# Altium footprint library LED.PcbLib: 55 footprints (part 1 of 4)
Each footprint in its own frame and in the unit in brackets; x right, y up, seen from the top. Pads: shape width x height; smd on the part's side, far side on the other; paste and mask are expansions set on the pad; w line width, h text height; cw(c..) or ccw(c..) is an arc to the next point about the centre after c.
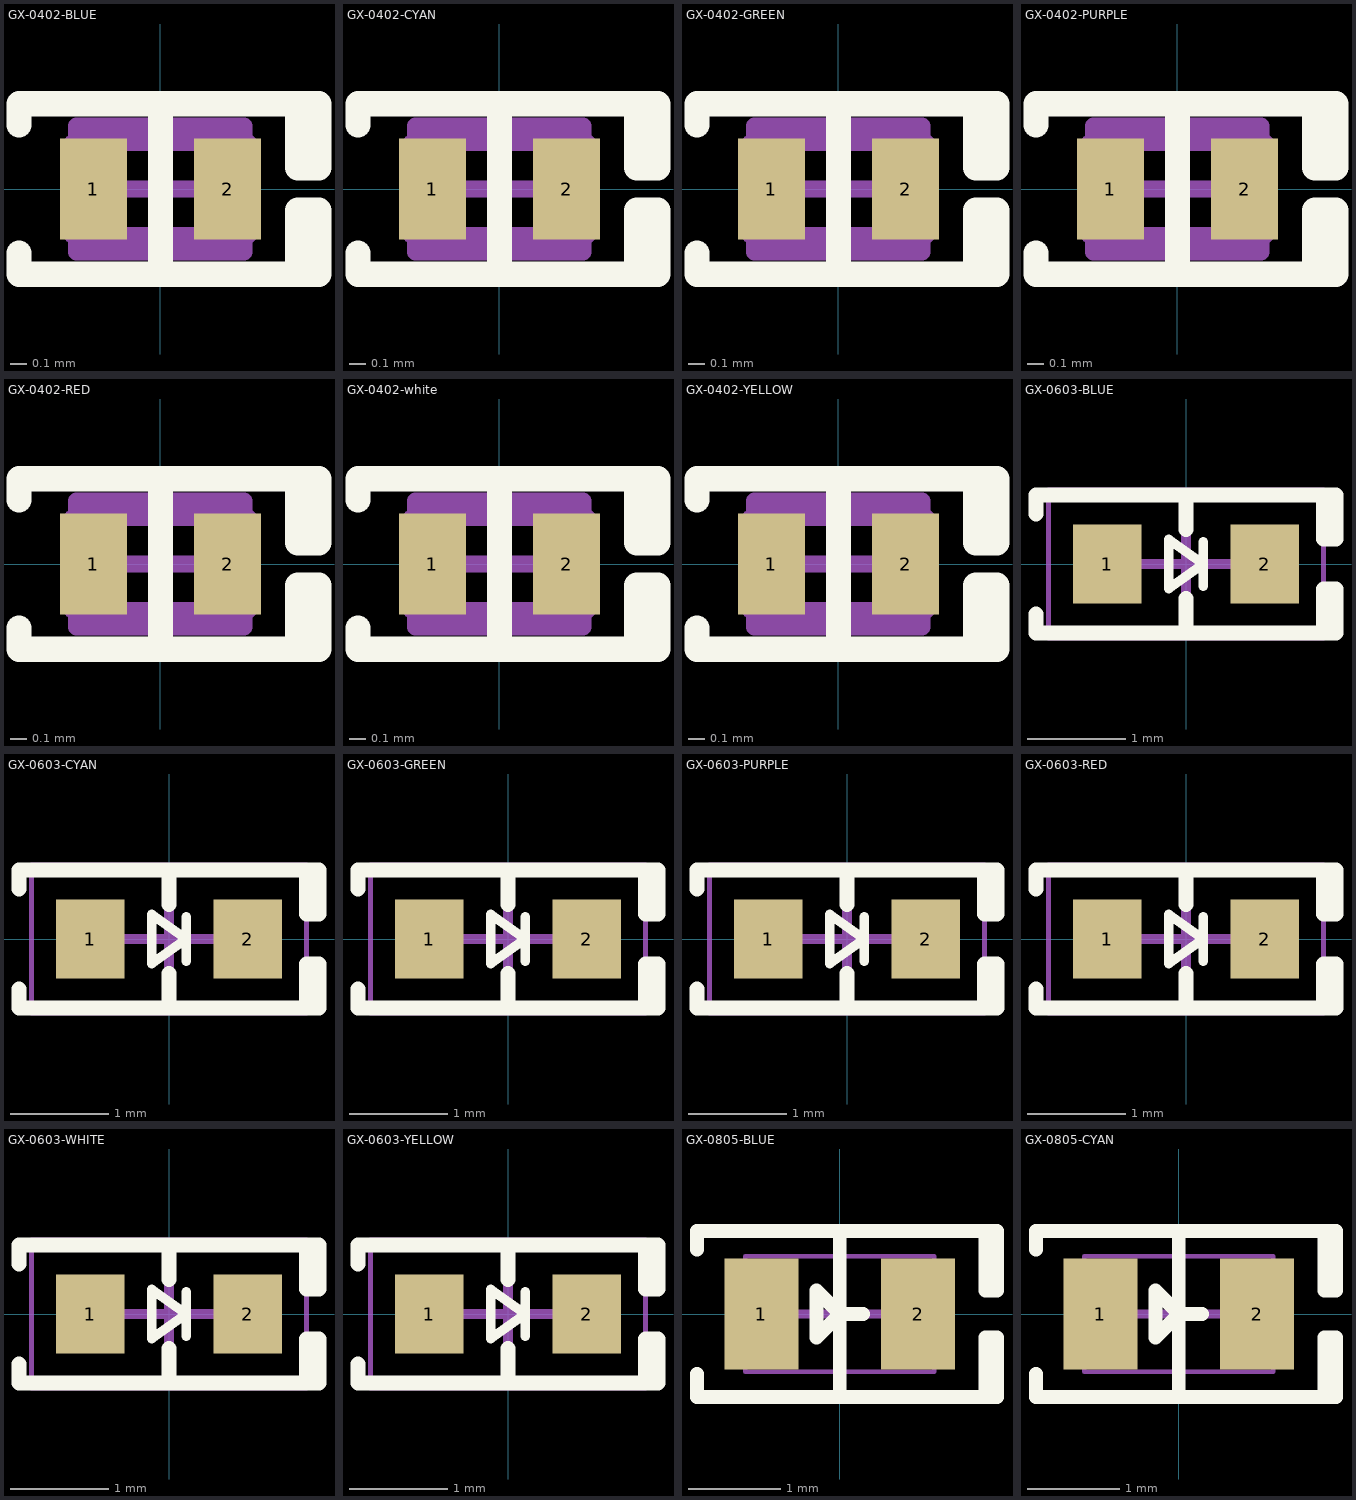
[diagram p0: the footprints below, top view; thin cyan lines are the x and y axes]

## GX-0402-BLUE [mm] "国星光电 0402 LED封装 蓝色"
pads (2):
  rect 0.4x0.6 smd mask+0.05: 1(-0.4,0) 2(0.4,0)
Top Overlay:
  lines w0.15: -0.843,-0.381 -0.843,-0.508 0.818,-0.508 ; -0.843,0.381 -0.843,0.508 0.818,0.508 ; 0,-0.508 0,0.508 ; 0.818,-0.508 0.818,-0.127 0.945,-0.127 0.945,-0.508 0.818,-0.508 ; 0.818,0.508 0.818,0.127 0.945,0.127 0.945,0.508 0.818,0.508
Mechanical 13:
  lines w0.1: -0.525,-0.275 -0.525,0.275 0.525,0.275 0.525,-0.275 -0.525,-0.275
Mechanical 15:
  lines w0.1: -0.275,0 0.275,0 ; 0,-0.275 0,0.275 ; -0.5,-0.375 -0.5,0.375 0.5,0.375 0.5,-0.375 -0.5,-0.375
3D body "LED0402 blue.STEP": height 0.45, standoff 0, extent -0.505,-0.25 0.505,0.25

## GX-0402-CYAN [mm] "国星光电 0402 LED封装 青色"
pads (2):
  rect 0.4x0.6 smd mask+0.05: 1(-0.4,0) 2(0.4,0)
Top Overlay:
  lines w0.15: -0.843,-0.381 -0.843,-0.508 0.818,-0.508 ; -0.843,0.381 -0.843,0.508 0.818,0.508 ; 0,-0.508 0,0.508 ; 0.818,-0.508 0.945,-0.508 0.945,-0.127 0.818,-0.127 0.818,-0.508 ; 0.818,0.508 0.945,0.508 0.945,0.127 0.818,0.127 0.818,0.508
Mechanical 13:
  lines w0.1: -0.525,-0.275 0.525,-0.275 0.525,0.275 -0.525,0.275 -0.525,-0.275
Mechanical 15:
  lines w0.1: -0.275,0 0.275,0 ; 0,-0.275 0,0.275 ; -0.5,-0.375 0.5,-0.375 0.5,0.375 -0.5,0.375 -0.5,-0.375
3D body "LED0402 cyan.STEP": height 0.45, standoff 0, extent -0.505,-0.25 0.505,0.25

## GX-0402-GREEN [mm] "国星光电 0402 LED封装 绿色"
pads (2):
  rect 0.4x0.6 smd mask+0.05: 1(-0.4,0) 2(0.4,0)
Top Overlay:
  lines w0.15: -0.843,-0.381 -0.843,-0.508 0.818,-0.508 ; -0.843,0.381 -0.843,0.508 0.818,0.508 ; 0,-0.508 0,0.508 ; 0.818,-0.508 0.818,-0.127 0.945,-0.127 0.945,-0.508 0.818,-0.508 ; 0.818,0.508 0.818,0.127 0.945,0.127 0.945,0.508 0.818,0.508
Mechanical 13:
  lines w0.1: -0.525,-0.275 -0.525,0.275 0.525,0.275 0.525,-0.275 -0.525,-0.275
Mechanical 15:
  lines w0.1: -0.275,0 0.275,0 ; 0,-0.275 0,0.275 ; -0.5,-0.375 -0.5,0.375 0.5,0.375 0.5,-0.375 -0.5,-0.375
3D body "LED0402 green.STEP": height 0.45, standoff 0, extent -0.505,-0.25 0.505,0.25

## GX-0402-PURPLE [mm] "国星光电 0402 LED封装 紫色"
pads (2):
  rect 0.4x0.6 smd mask+0.05: 1(-0.4,0) 2(0.4,0)
Top Overlay:
  lines w0.15: -0.843,-0.381 -0.843,-0.508 0.818,-0.508 ; -0.843,0.381 -0.843,0.508 0.818,0.508 ; 0,-0.508 0,0.508 ; 0.818,-0.508 0.945,-0.508 0.945,-0.127 0.818,-0.127 0.818,-0.508 ; 0.818,0.508 0.945,0.508 0.945,0.127 0.818,0.127 0.818,0.508
Mechanical 13:
  lines w0.1: -0.525,-0.275 0.525,-0.275 0.525,0.275 -0.525,0.275 -0.525,-0.275
Mechanical 15:
  lines w0.1: -0.275,0 0.275,0 ; 0,-0.275 0,0.275 ; -0.5,-0.375 0.5,-0.375 0.5,0.375 -0.5,0.375 -0.5,-0.375
3D body "LED0402 purple.STEP": height 0.45, standoff 0, extent -0.505,-0.25 0.505,0.25

## GX-0402-RED [mm] "国星光电 0402 LED封装 红色"
pads (2):
  rect 0.4x0.6 smd mask+0.05: 1(-0.4,0) 2(0.4,0)
Top Overlay:
  lines w0.15: -0.843,-0.381 -0.843,-0.508 0.818,-0.508 ; -0.843,0.381 -0.843,0.508 0.818,0.508 ; 0,-0.508 0,0.508 ; 0.818,-0.508 0.818,-0.127 0.945,-0.127 0.945,-0.508 0.818,-0.508 ; 0.818,0.508 0.818,0.127 0.945,0.127 0.945,0.508 0.818,0.508
Mechanical 13:
  lines w0.1: -0.525,-0.275 -0.525,0.275 0.525,0.275 0.525,-0.275 -0.525,-0.275
Mechanical 15:
  lines w0.1: -0.275,0 0.275,0 ; 0,-0.275 0,0.275 ; -0.5,-0.375 -0.5,0.375 0.5,0.375 0.5,-0.375 -0.5,-0.375
3D body "LED0402 red.STEP": height 0.45, standoff 0, extent -0.505,-0.25 0.505,0.25

## GX-0402-white [mm] "国星光电 0402 LED封装 白色"
pads (2):
  rect 0.4x0.6 smd mask+0.05: 1(-0.4,0) 2(0.4,0)
Top Overlay:
  lines w0.15: -0.843,-0.381 -0.843,-0.508 0.818,-0.508 ; -0.843,0.381 -0.843,0.508 0.818,0.508 ; 0,-0.508 0,0.508 ; 0.818,-0.508 0.818,-0.127 0.945,-0.127 0.945,-0.508 0.818,-0.508 ; 0.818,0.508 0.818,0.127 0.945,0.127 0.945,0.508 0.818,0.508
Mechanical 13:
  lines w0.1: -0.525,-0.275 -0.525,0.275 0.525,0.275 0.525,-0.275 -0.525,-0.275
Mechanical 15:
  lines w0.1: -0.275,0 0.275,0 ; 0,-0.275 0,0.275 ; -0.5,-0.375 -0.5,0.375 0.5,0.375 0.5,-0.375 -0.5,-0.375
3D body "LED0402 white.STEP": height 0.45, standoff 0, extent -0.505,-0.25 0.505,0.25

## GX-0402-YELLOW [mm] "国星光电 0402 LED封装 黄色"
pads (2):
  rect 0.4x0.6 smd mask+0.05: 1(-0.4,0) 2(0.4,0)
Top Overlay:
  lines w0.15: -0.843,-0.381 -0.843,-0.508 0.818,-0.508 ; -0.843,0.381 -0.843,0.508 0.818,0.508 ; 0,-0.508 0,0.508 ; 0.818,-0.508 0.945,-0.508 0.945,-0.127 0.818,-0.127 0.818,-0.508 ; 0.818,0.508 0.945,0.508 0.945,0.127 0.818,0.127 0.818,0.508
Mechanical 13:
  lines w0.1: -0.525,-0.275 0.525,-0.275 0.525,0.275 -0.525,0.275 -0.525,-0.275
Mechanical 15:
  lines w0.1: -0.275,0 0.275,0 ; 0,-0.275 0,0.275 ; -0.5,-0.375 0.5,-0.375 0.5,0.375 -0.5,0.375 -0.5,-0.375
3D body "LED0402 yellow.STEP": height 0.45, standoff 0, extent -0.505,-0.25 0.505,0.25

## GX-0603-BLUE [mm] "国星光电 0603 LED封装 蓝色"
pads (2):
  rect 0.7x0.8 smd: 1(-0.8,0) 2(0.8,0)
Top Overlay:
  lines w0.1: 0.175,-0.225 0.175,0 ; 0.175,0.225 0.175,0 ; 0.175,0 -0.175,0.25 -0.175,0 -0.175,-0.25 0.175,0
  lines w0.15: -1.524,-0.508 -1.524,-0.7 1.5,-0.7 ; -1.524,0.508 -1.524,0.7 1.5,0.7 ; 0,-0.7 0,-0.35 ; 0,0.35 0,0.7 ; 1.397,-0.7 1.524,-0.7 1.524,-0.254 1.397,-0.254 1.397,-0.7 ; 1.397,0.254 1.524,0.254 1.524,0.7 1.397,0.7 1.397,0.254
Mechanical 15:
  lines w0.05: -1.397,-0.75 -1.397,0.75 1.397,0.75 1.397,-0.75 -1.397,-0.75
  lines w0.1: -0.475,0 0.475,0 ; 0,-0.475 0,0.475
3D body "LED0603 blue.STEP": height 0.6, standoff 0, extent -0.81,-0.4 0.81,0.4

## GX-0603-CYAN [mm] "国星光电 0603 LED封装 青色"
pads (2):
  rect 0.7x0.8 smd: 1(-0.8,0) 2(0.8,0)
Top Overlay:
  lines w0.1: 0.175,-0.225 0.175,0 ; 0.175,0.225 0.175,0 ; 0.175,0 -0.175,0.25 -0.175,0 -0.175,-0.25 0.175,0
  lines w0.15: -1.524,-0.508 -1.524,-0.7 1.5,-0.7 ; -1.524,0.508 -1.524,0.7 1.5,0.7 ; 0,-0.7 0,-0.35 ; 0,0.35 0,0.7 ; 1.397,-0.7 1.524,-0.7 1.524,-0.254 1.397,-0.254 1.397,-0.7 ; 1.397,0.254 1.524,0.254 1.524,0.7 1.397,0.7 1.397,0.254
Mechanical 15:
  lines w0.05: -1.397,-0.75 -1.397,0.75 1.397,0.75 1.397,-0.75 -1.397,-0.75
  lines w0.1: -0.475,0 0.475,0 ; 0,-0.475 0,0.475
3D body "LED0603 cyan.STEP": height 0.6, standoff 0, extent -0.81,-0.4 0.81,0.4

## GX-0603-GREEN [mm] "国星光电 0603 LED封装 绿色"
pads (2):
  rect 0.7x0.8 smd: 1(-0.8,0) 2(0.8,0)
Top Overlay:
  lines w0.1: 0.175,-0.225 0.175,0 ; 0.175,0.225 0.175,0 ; 0.175,0 -0.175,0.25 -0.175,0 -0.175,-0.25 0.175,0
  lines w0.15: -1.524,-0.508 -1.524,-0.7 1.5,-0.7 ; -1.524,0.508 -1.524,0.7 1.5,0.7 ; 0,-0.7 0,-0.35 ; 0,0.35 0,0.7 ; 1.397,-0.7 1.524,-0.7 1.524,-0.254 1.397,-0.254 1.397,-0.7 ; 1.397,0.254 1.524,0.254 1.524,0.7 1.397,0.7 1.397,0.254
Mechanical 15:
  lines w0.05: -1.397,-0.75 -1.397,0.75 1.397,0.75 1.397,-0.75 -1.397,-0.75
  lines w0.1: -0.475,0 0.475,0 ; 0,-0.475 0,0.475
3D body "LED0603 green.STEP": height 0.6, standoff 0, extent -0.81,-0.4 0.81,0.4

## GX-0603-PURPLE [mm] "国星光电 0603 LED封装 紫色"
pads (2):
  rect 0.7x0.8 smd: 1(-0.8,0) 2(0.8,0)
Top Overlay:
  lines w0.1: 0.175,-0.225 0.175,0 ; 0.175,0.225 0.175,0 ; 0.175,0 -0.175,0.25 -0.175,0 -0.175,-0.25 0.175,0
  lines w0.15: -1.524,-0.508 -1.524,-0.7 1.5,-0.7 ; -1.524,0.508 -1.524,0.7 1.5,0.7 ; 0,-0.7 0,-0.35 ; 0,0.35 0,0.7 ; 1.397,-0.7 1.524,-0.7 1.524,-0.254 1.397,-0.254 1.397,-0.7 ; 1.397,0.254 1.524,0.254 1.524,0.7 1.397,0.7 1.397,0.254
Mechanical 15:
  lines w0.05: -1.397,-0.75 -1.397,0.75 1.397,0.75 1.397,-0.75 -1.397,-0.75
  lines w0.1: -0.475,0 0.475,0 ; 0,-0.475 0,0.475
3D body "LED0603 purple.STEP": height 0.6, standoff 0, extent -0.81,-0.4 0.81,0.4

## GX-0603-RED [mm] "国星光电 0603 LED封装 红色"
pads (2):
  rect 0.7x0.8 smd: 1(-0.8,0) 2(0.8,0)
Top Overlay:
  lines w0.1: 0.175,-0.225 0.175,0 ; 0.175,0.225 0.175,0 ; 0.175,0 -0.175,0.25 -0.175,0 -0.175,-0.25 0.175,0
  lines w0.15: -1.524,-0.508 -1.524,-0.7 1.5,-0.7 ; -1.524,0.508 -1.524,0.7 1.5,0.7 ; 0,-0.7 0,-0.35 ; 0,0.35 0,0.7 ; 1.397,-0.7 1.524,-0.7 1.524,-0.254 1.397,-0.254 1.397,-0.7 ; 1.397,0.254 1.524,0.254 1.524,0.7 1.397,0.7 1.397,0.254
Mechanical 15:
  lines w0.05: -1.397,-0.75 -1.397,0.75 1.397,0.75 1.397,-0.75 -1.397,-0.75
  lines w0.1: -0.475,0 0.475,0 ; 0,-0.475 0,0.475
3D body "LED0603 red.STEP": height 0.6, standoff 0, extent -0.81,-0.4 0.81,0.4

## GX-0603-WHITE [mm] "国星光电 0603 LED封装 白色"
pads (2):
  rect 0.7x0.8 smd: 1(-0.8,0) 2(0.8,0)
Top Overlay:
  lines w0.1: 0.175,-0.225 0.175,0 ; 0.175,0.225 0.175,0 ; 0.175,0 -0.175,-0.25 -0.175,0 -0.175,0.25 0.175,0
  lines w0.15: -1.524,-0.508 -1.524,-0.7 1.5,-0.7 ; -1.524,0.508 -1.524,0.7 1.5,0.7 ; 0,-0.7 0,-0.35 ; 0,0.35 0,0.7 ; 1.397,-0.7 1.397,-0.254 1.524,-0.254 1.524,-0.7 1.397,-0.7 ; 1.397,0.254 1.397,0.7 1.524,0.7 1.524,0.254 1.397,0.254
Mechanical 15:
  lines w0.05: -1.397,-0.75 1.397,-0.75 1.397,0.75 -1.397,0.75 -1.397,-0.75
  lines w0.1: -0.475,0 0.475,0 ; 0,-0.475 0,0.475
3D body "LED0603 white.STEP": height 0.6, standoff 0, extent -0.81,-0.4 0.81,0.4

## GX-0603-YELLOW [mm] "国星光电 0603 LED封装 黄色"
pads (2):
  rect 0.7x0.8 smd: 1(-0.8,0) 2(0.8,0)
Top Overlay:
  lines w0.1: 0.175,-0.225 0.175,0 ; 0.175,0.225 0.175,0 ; 0.175,0 -0.175,0.25 -0.175,0 -0.175,-0.25 0.175,0
  lines w0.15: -1.524,-0.508 -1.524,-0.7 1.5,-0.7 ; -1.524,0.508 -1.524,0.7 1.5,0.7 ; 0,-0.7 0,-0.35 ; 0,0.35 0,0.7 ; 1.397,-0.7 1.524,-0.7 1.524,-0.254 1.397,-0.254 1.397,-0.7 ; 1.397,0.254 1.524,0.254 1.524,0.7 1.397,0.7 1.397,0.254
Mechanical 15:
  lines w0.05: -1.397,-0.75 -1.397,0.75 1.397,0.75 1.397,-0.75 -1.397,-0.75
  lines w0.1: -0.475,0 0.475,0 ; 0,-0.475 0,0.475
3D body "LED0603 yellow.STEP": height 0.6, standoff 0, extent -0.81,-0.4 0.81,0.4

## GX-0805-BLUE [mm] "国星光电 0805 LED封装 蓝色"
pads (2):
  rect 0.8x1.2 smd: 1(-0.85,0) 2(0.85,0)
Top Overlay:
  lines w0.15: -1.55,-0.65 -1.55,-0.9 1.625,-0.9 ; -1.55,0.7 -1.55,0.9 1.6,0.9 ; 0,-0.9 0,0.9 ; 0.254,0 0,0 ; 0,0 -0.254,-0.254 -0.254,0.254 0,0 ; 1.58,-0.9 1.58,-0.254 1.707,-0.254 1.707,-0.9 1.58,-0.9 ; 1.58,0.254 1.707,0.254 1.707,0.9 1.58,0.9 1.58,0.254
Mechanical 15:
  lines w0.05: -1.025,-0.625 1.025,-0.625 1.025,0.625 -1.025,0.625 -1.025,-0.625
  lines w0.1: -0.5,0 0.5,0 ; 0,-0.5 0,0.5
3D body "LED0805_blue.STEP": height 1.1, standoff 0, extent -1.01,-0.625 1.01,0.625

## GX-0805-CYAN [mm] "国星光电 0805 LED封装 青色"
pads (2):
  rect 0.8x1.2 smd: 1(-0.85,0) 2(0.85,0)
Top Overlay:
  lines w0.15: -1.55,-0.65 -1.55,-0.9 1.625,-0.9 ; -1.55,0.7 -1.55,0.9 1.6,0.9 ; 0,-0.9 0,0.9 ; 0.254,0 0,0 ; 0,0 -0.254,-0.254 -0.254,0.254 0,0 ; 1.58,-0.9 1.58,-0.254 1.707,-0.254 1.707,-0.9 1.58,-0.9 ; 1.58,0.254 1.707,0.254 1.707,0.9 1.58,0.9 1.58,0.254
Mechanical 15:
  lines w0.05: -1.025,-0.625 1.025,-0.625 1.025,0.625 -1.025,0.625 -1.025,-0.625
  lines w0.1: -0.5,0 0.5,0 ; 0,-0.5 0,0.5
3D body "LED0805 cyan.STEP": height 1.1, standoff 0, extent -1.01,-0.625 1.01,0.625